# Altium footprint library 3.5mm耳机接口.PcbLib: 1 footprints
Each footprint in its own frame and in the unit in brackets; x right, y up, seen from the top. Pads: shape width x height; smd on the part's side, far side on the other; paste and mask are expansions set on the pad; w line width, h text height; cw(c..) or ccw(c..) is an arc to the next point about the centre after c.
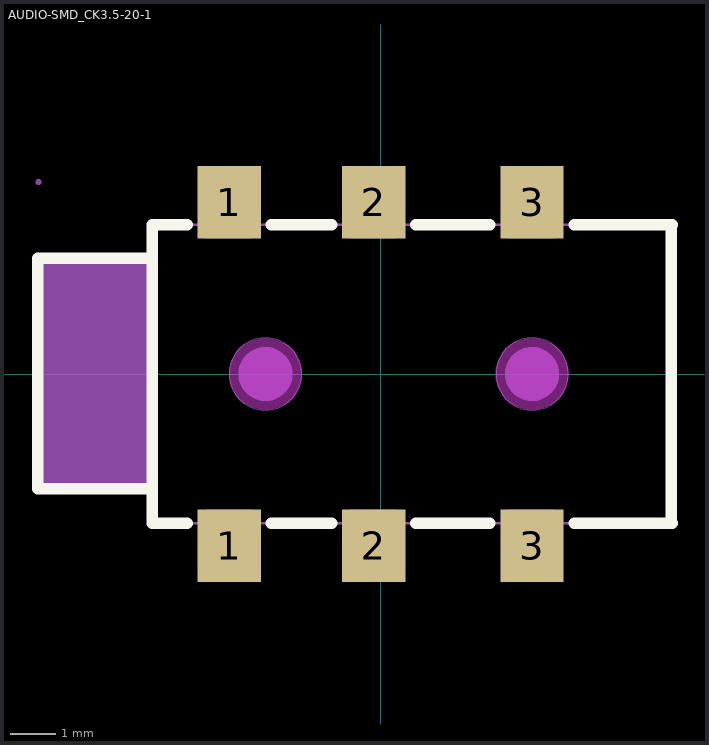
[diagram p0: the footprint, top view; thin cyan lines are the x and y axes]

## AUDIO-SMD_CK3.5-20-1 [mm]
pads (6):
  rect 1.4x1.6 smd: 1(-3.35,-3.8) 1(-3.35,3.8) 2(-0.15,-3.8) 2(-0.15,3.8) 3(3.35,-3.8) 3(3.35,3.8)
Top Overlay:
  lines w0.254: -5.05,-2.541 -7.59,-2.541 -7.59,2.564 -5.05,2.564 ; -4.281,-3.3 -5.05,-3.3 -5.05,3.3 -4.281,3.3 ; -2.419,-3.3 -1.081,-3.3 ; -2.419,3.3 -1.081,3.3 ; 0.781,-3.3 2.419,-3.3 ; 0.781,3.3 2.419,3.3 ; 4.281,-3.3 6.45,-3.3 ; 4.281,3.3 6.45,3.3 ; 6.433,-3.3 6.433,3.3
Keep-Out Layer:
  board cut-out: -1.75,0 -1.751,0.105 -1.806,0.307 -1.912,0.488 -2.061,0.635 -2.243,0.74 -2.445,0.794 -2.655,0.794 -2.857,0.74 -3.039,0.635 -3.188,0.488 -3.293,0.307 -3.349,0.105 -3.35,0 -3.349,-0.105 -3.293,-0.307 -3.188,-0.488 -3.039,-0.635 -2.857,-0.74 -2.655,-0.794 -2.445,-0.794 -2.243,-0.74 -2.061,-0.635 -1.912,-0.488 -1.806,-0.307 -1.751,-0.105 -1.75,0
  board cut-out: 4.15,0 4.149,0.105 4.094,0.307 3.988,0.488 3.839,0.635 3.657,0.74 3.455,0.794 3.245,0.794 3.043,0.74 2.861,0.635 2.712,0.488 2.606,0.307 2.551,0.105 2.55,0 2.551,-0.105 2.606,-0.307 2.712,-0.488 2.861,-0.635 3.043,-0.74 3.245,-0.794 3.455,-0.794 3.657,-0.74 3.839,-0.635 3.988,-0.488 4.094,-0.307 4.149,-0.105 4.15,0
Mechanical 1:
  circle w0.005: c-2.55,0 r0.8
  circle w0.005: c3.35,0 r0.8
Mechanical 6:
  circle w0.6: c-2.55,0 r0.3
  circle w0.6: c3.35,0 r0.3
  region: -5.07,-2.5 -7.465,-2.5 -7.5,-2.49 -7.54,-2.47 -7.56,-2.45 -7.57,-2.42 -7.57,2.42 -7.56,2.45 -7.54,2.47 -7.5,2.49 -7.47,2.5 -5.07,2.5
Mechanical 15:
  region: -7.51,4.25 -7.51,4.275 -7.545,4.31 -7.595,4.31 -7.63,4.275 -7.63,4.25 -7.63,4.225 -7.595,4.19 -7.545,4.19 -7.51,4.225 -7.51,4.25
  region: -3.87,3 -3.87,4.05 -3.86,4.1 -3.84,4.15 -3.81,4.19 -3.77,4.22 -3.72,4.24 -3.67,4.25 -3.07,4.25 -3.02,4.24 -2.97,4.22 -2.93,4.19 -2.9,4.15 -2.88,4.1 -2.87,4.05 -2.87,3
  region: -0.67,3 -0.67,4.05 -0.66,4.1 -0.64,4.15 -0.61,4.19 -0.57,4.22 -0.52,4.24 -0.47,4.25 0.13,4.25 0.18,4.24 0.23,4.22 0.27,4.19 0.3,4.15 0.32,4.1 0.33,4.05 0.33,3
  region: 2.83,3 2.83,4.05 2.84,4.1 2.86,4.15 2.89,4.19 2.93,4.22 2.98,4.24 3.03,4.25 3.63,4.25 3.68,4.24 3.73,4.22 3.77,4.19 3.8,4.15 3.82,4.1 3.83,4.05 3.83,3
  region: -2.87,-3 -2.87,-4.05 -2.88,-4.1 -2.9,-4.15 -2.93,-4.19 -2.97,-4.22 -3.02,-4.24 -3.07,-4.25 -3.67,-4.25 -3.72,-4.24 -3.77,-4.22 -3.81,-4.19 -3.84,-4.15 -3.86,-4.1 -3.87,-4.05 -3.87,-3
  region: 0.33,-3 0.33,-4.05 0.32,-4.1 0.3,-4.15 0.27,-4.19 0.23,-4.22 0.18,-4.24 0.13,-4.25 -0.47,-4.25 -0.52,-4.24 -0.57,-4.22 -0.61,-4.19 -0.64,-4.15 -0.66,-4.1 -0.67,-4.05 -0.67,-3
  region: 3.83,-3 3.83,-4.05 3.82,-4.1 3.8,-4.15 3.77,-4.19 3.73,-4.22 3.68,-4.24 3.63,-4.25 3.03,-4.25 2.98,-4.24 2.93,-4.22 2.89,-4.19 2.86,-4.15 2.84,-4.1 2.83,-4.05 2.83,-3
  lines w0.051: -7.57,-2.5 -7.57,2.5 -5.07,2.5 -5.07,3.3 6.43,3.3 6.43,-3.3 -5.07,-3.3 -5.07,-2.5 -7.57,-2.5
Multi-Layer keep-out:
  region: -1.75,0 -1.751,0.105 -1.806,0.307 -1.912,0.488 -2.061,0.635 -2.243,0.74 -2.445,0.794 -2.655,0.794 -2.857,0.74 -3.039,0.635 -3.188,0.488 -3.293,0.307 -3.349,0.105 -3.35,0 -3.349,-0.105 -3.293,-0.307 -3.188,-0.488 -3.039,-0.635 -2.857,-0.74 -2.655,-0.794 -2.445,-0.794 -2.243,-0.74 -2.061,-0.635 -1.912,-0.488 -1.806,-0.307 -1.751,-0.105 -1.75,0
  region: 4.15,0 4.149,0.105 4.094,0.307 3.988,0.488 3.839,0.635 3.657,0.74 3.455,0.794 3.245,0.794 3.043,0.74 2.861,0.635 2.712,0.488 2.606,0.307 2.551,0.105 2.55,0 2.551,-0.105 2.606,-0.307 2.712,-0.488 2.861,-0.635 3.043,-0.74 3.245,-0.794 3.455,-0.794 3.657,-0.74 3.839,-0.635 3.988,-0.488 4.094,-0.307 4.149,-0.105 4.15,0
3D body "3.5mm耳机接口.SLDPRT": height 5.07, standoff -0.93, extent -7.523,-4.309 6.477,4.191